# EAGLE library part 1-1393243-7 (library Relays)
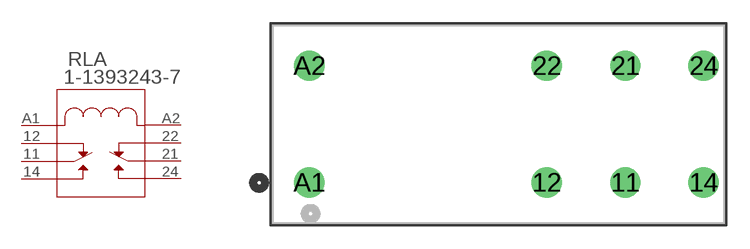
[diagram p66: symbol with the pads of RELAY8_1-1393243-0; footprint RELAY8_1-1393243-0]

Designator prefix RLA

## 1-1393243-7 (BUILT_BY: Digital_Papaya_Team; CATEGORY: Power Relays; CONTACT_ARRANGEMENT: 2 Form C (CO); COPYRIGHT: Copyright (C) 2018 Accelerated Designs. All rights reserved; DATASHEET: https://www.te.com/commerce/DocumentDelivery/DDEController?Action=showdoc&DocId=Data+Sheet%7FRT2%7F1014%7Fpdf%7FEnglish%7FENG_DS_RT2_1014.pdf%7F1-1393243-7; DESCRIPTION: RTE24615; MANUFACTURER_PART_NUMBER: RTE24615; MAXIMUM_SWITCHING_CURRENT: -; MAXIMUM_SWITCHING_VOLTAGE: -; PART_STATUS: active; PRODUCT_TYPE: -; RELAY_TYPE: -; SERIES: SCHRACK Power PCB Relay RT2; TE_PART_NUMBER: RTE24615 (1-1393243-7); VENDOR: TE Connectivity)  [RELAY8_1-1393243-0]
11  11  pas
12  12  pas
14  14  pas
21  21  pas
22  22  pas
24  24  pas
A1  A1  pas
A2  A2  pas

## Footprint RELAY8_1-1393243-0 (pad centres in mm)
drill 1.295 pad 1.803: 11 20.32,-0.025; 12 15.265,-0.025; 14 25.349,-0.025; 21 20.32,7.468; 22 15.265,7.468; 24 25.349,7.468; A1 0.025,-0.025; A2 0.025,7.468